# EAGLE library part TEENSY4.1 (library EIT_Recorder)
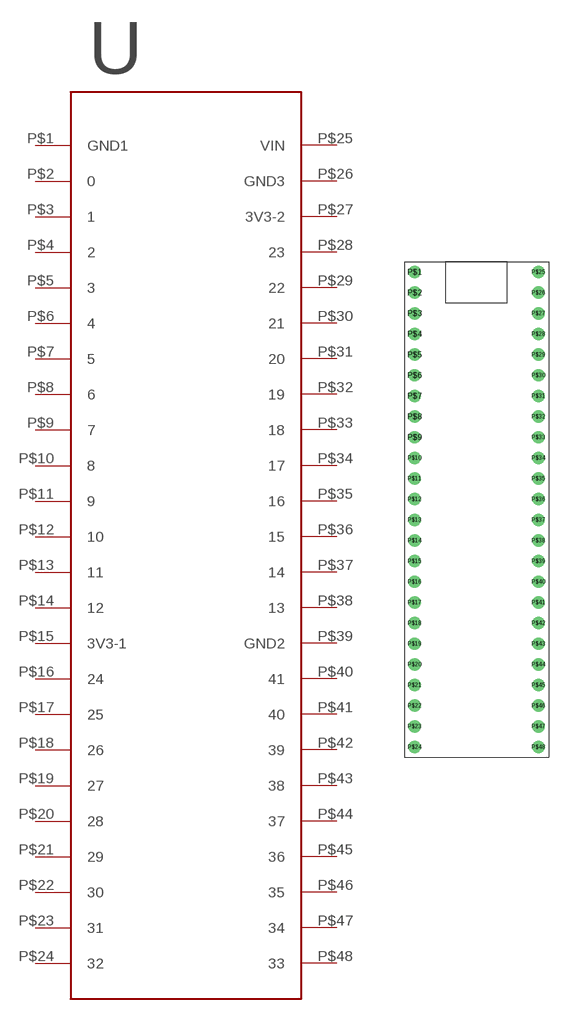
[diagram p5: symbol with the pads of TEENSY4.1; footprint TEENSY4.1]

Designator prefix -

## TEENSY4.1  [TEENSY4.1]
P$1  GND1  pas
P$2  0
P$3  1
P$4  2
P$5  3
P$6  4
P$7  5
P$8  6
P$9  7
P$10  8
P$11  9
P$12  10
P$13  11
P$14  12
P$15  3V3-1  pwr
P$16  24
P$17  25
P$18  26
P$19  27
P$20  28
P$21  29
P$22  30
P$23  31
P$24  32
P$25  VIN  pwr
P$26  GND3  pas
P$27  3V3-2  pas
P$28  23
P$29  22
P$30  21
P$31  20
P$32  19
P$33  18
P$34  17
P$35  16
P$36  15
P$37  14
P$38  13
P$39  GND2  pas
P$40  41
P$41  40
P$42  39
P$43  38
P$44  37
P$45  36
P$46  35
P$47  34
P$48  33

## Footprint TEENSY4.1 (pad centres in mm)
drill 1.016 pad 1.524: P$1 -7.62,28.575; P$2 -7.62,26.035; P$3 -7.62,23.495; P$4 -7.62,20.955; P$5 -7.62,18.415; P$6 -7.62,15.875; P$7 -7.62,13.335; P$8 -7.62,10.795; P$9 -7.62,8.255; P$10 -7.62,5.715; P$11 -7.62,3.175; P$12 -7.62,0.635; P$13 -7.62,-1.905; P$14 -7.62,-4.445; P$15 -7.62,-6.985; P$16 -7.62,-9.525; P$17 -7.62,-12.065; P$18 -7.62,-14.605; P$19 -7.62,-17.145; P$20 -7.62,-19.685; P$21 -7.62,-22.225; P$22 -7.62,-24.765; P$23 -7.62,-27.305; P$24 -7.62,-29.845; P$25 7.62,28.575; P$26 7.62,26.035; P$27 7.62,23.495; P$28 7.62,20.955; P$29 7.62,18.415; P$30 7.62,15.875; P$31 7.62,13.335; P$32 7.62,10.795; P$33 7.62,8.255; P$34 7.62,5.715; P$35 7.62,3.175; P$36 7.62,0.635; P$37 7.62,-1.905; P$38 7.62,-4.445; P$39 7.62,-6.985; P$40 7.62,-9.525; P$41 7.62,-12.065; P$42 7.62,-14.605; P$43 7.62,-17.145; P$44 7.62,-19.685; P$45 7.62,-22.225; P$46 7.62,-24.765; P$47 7.62,-27.305; P$48 7.62,-29.845